# EAGLE library part LORA (library my_devices)
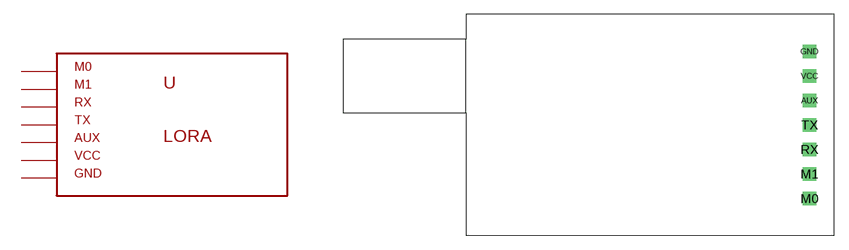
[diagram p14: symbol with the pads of LORA; footprint LORA]

Designator prefix U

## LORA  [LORA]
AUX  AUX
GND  GND  sup
M0  M0
M1  M1
RX  RX
TX  TX
VCC  VCC  sup

## Footprint LORA (pad centres in mm)
drill 0.9 square: AUX 16.51,2.54; GND 16.51,7.62; M0 16.51,-7.62; M1 16.51,-5.08; RX 16.51,-2.54; TX 16.51,0; VCC 16.51,5.08